# Altium schematic symbol library BNO085.SchLib: 1 symbol
Pins are listed as number, name and electrical type; pins without a type are passive.

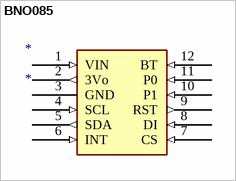
[diagram p0: symbol BNO085]

## BNO085
designator *
footprint PCBComponent_1
pins: 1 VIN (in), 2 3Vo (out), 3 GND (power), 4 SCL (in), 5 SDA (out), 6 INT (in), 7 CS (in), 8 DI (in), 9 RST (out), 10 P1 (in), 11 P0 (in), 12 BT (in)